# Altium schematic symbol library SY8089AAAC.SchLib: 1 symbol
Pins are listed as number, name and electrical type; pins without a type are passive.

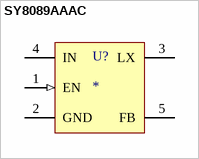
[diagram p0: symbol SY8089AAAC]

## SY8089AAAC
designator U?
High Efficiency 5.5V, 2A continuous, 3A peak, 1MHz Synchronous Step Down Regulator
footprint SOT-23-5
pins: 1 EN (in), 2 GND, 3 LX, 4 IN, 5 FB